# Altium footprint library Bandgap Reference.PcbLib: 4 footprints
Each footprint in its own frame and in the unit in brackets; x right, y up, seen from the top. Pads: shape width x height; smd on the part's side, far side on the other; paste and mask are expansions set on the pad; w line width, h text height; cw(c..) or ccw(c..) is an arc to the next point about the centre after c.
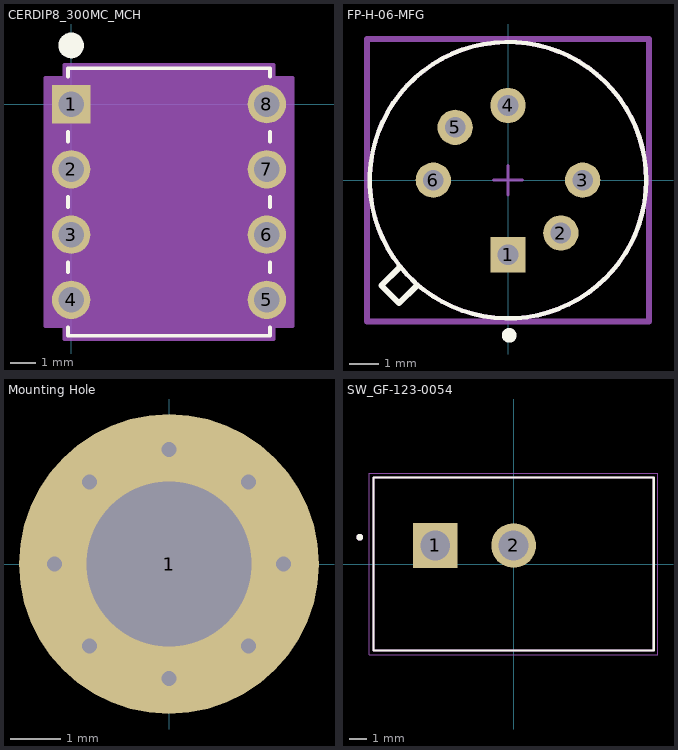
[diagram p0: the footprints below, top view; thin cyan lines are the x and y axes]

## CERDIP8_300MC_MCH [mil]
pads (8):
  rect 59x59 / inner round 60 / far side rect 59x59 hole 39 paste-99999 mask+0: 1(0,0)
  round 59 / inner round 60 / far side round 59 hole 39 paste-99999 mask+0: 2(0,-100) 3(0,-200) 4(0,-300) 5(300,-300) 6(300,-200) 7(300,-100) 8(300,0)
Top Overlay:
  circle w19.68: c0,90 r9.84
  lines w6: -5,-342.31 -5,-355 305,-355 305,-342.31 ; -5,-257.69 -5,-242.31 ; -5,-157.69 -5,-142.31 ; -5,-57.69 -5,-42.6 ; -5,42.6 -5,55 305,55 305,42.31 ; 305,-257.69 305,-242.31 ; 305,-157.69 305,-142.31 ; 305,-57.69 305,-42.31
Mechanical 13:
  lines w0: 138,50 ccw(c150,50) 162,50
  lines w1: -19.5,-319.5 -19.5,-280.5 0,-280.5 0,-319.5 -19.5,-319.5 ; -19.5,-219.5 -19.5,-180.5 0,-180.5 0,-219.5 -19.5,-219.5 ; -19.5,-119.5 -19.5,-80.5 0,-80.5 0,-119.5 -19.5,-119.5 ; -19.5,-19.5 -19.5,19.5 0,19.5 0,-19.5 -19.5,-19.5 ; 0,-350 300,-350 300,50 0,50 0,-350 ; 300,-319.5 300,-280.5 319.5,-280.5 319.5,-319.5 300,-319.5 ; 300,-219.5 300,-180.5 319.5,-180.5 319.5,-219.5 300,-219.5 ; 300,-119.5 300,-80.5 319.5,-80.5 319.5,-119.5 300,-119.5 ; 300,-19.5 300,19.5 319.5,19.5 319.5,-19.5 300,-19.5
  text "*" at -2.5,-25 h50
Mechanical 15:
  region: 310,-340 339.5,-340 339.5,40 310,40 310,60 -10,60 -10,40 -39.5,40 -39.5,-340 -10,-340 -10,-360 310,-360
  lines w6: -39.5,-340 -39.5,40 -10,40 -10,60 310,60 310,40 339.5,40 339.5,-340 310,-340 310,-360 -10,-360 -10,-340 -39.5,-340
3D body "CERDIP8_300MC_MCH.step": height 205.12, standoff -100, extent -5.04,-350 309.57,50

## FP-H-06-MFG [mm]
pads (6):
  rect 1.2x1.2 hole 0.7 paste-2539.97 mask+0: 1(0,-2.54)
  round 1.2 hole 0.7 paste-2539.97 mask+0: 2(1.796,-1.796) 3(2.54,0) 4(0,2.54) 5(-1.796,1.796) 6(-2.54,0)
Top Overlay:
  circle w0.15: c0,0 r4.7
  circle w0.25: c0.04,-5.275 r0.125
  lines w0.2: -4.305,-3.582 -3.705,-4.183 ; -4.3,-3.575 -3.7,-2.975 ; -3.705,-4.185 -3.105,-3.585
Top 3D Body:
  circle w0.15: c0,0 r4.7
Top Courtyard:
  lines w0.2: -4.8,-4.8 4.8,-4.8 4.8,4.8 -4.8,4.8 -4.8,-4.8
Top Assembly:
  lines w0.2: -4.8,-4.8 4.8,-4.8 4.8,4.8 -4.8,4.8 -4.8,-4.8
  text ".Designator" at 0,-0.001 h1
Top Component Center:
  lines w0.1: -0.5,0 0.5,0 ; 0,-0.5 0,0.5
3D body "Trans_Analog_Devices_MAT01GHZ_eec.STEP": height 0.25, standoff 0, extent -4.8,-4.8 4.8,4.8

## Mounting Hole [mm]
pads (1):
  round 6 hole 3.3: 1(0,0)
via 0,2.286 diameter 0.6 hole 0.3
via 0,-2.286 diameter 0.6 hole 0.3
via -2.286,0 diameter 0.6 hole 0.3
via 2.286,0 diameter 0.6 hole 0.3
via -1.588,1.636 diameter 0.6 hole 0.3
via 1.588,-1.636 diameter 0.6 hole 0.3
via -1.588,-1.636 diameter 0.6 hole 0.3
via 1.588,1.636 diameter 0.6 hole 0.3

## SW_GF-123-0054 [mm]
pads (2):
  rect 2.625x2.625 hole 1.75: 1(-4.6,1.09)
  round 2.625 hole 1.75: 2(0,1.09)
Top Overlay:
  circle w0.2: c-9.04,1.57 r0.1
  lines w0.127: 8.23,1.75 8.23,3.3 ; -8.23,-5.08 8.23,-5.08 8.23,5.08 -8.23,5.08 -8.23,-5.08
Mechanical 13:
  circle w0.2: c-9.04,1.57 r0.1
  lines w0.127: -8.23,-5.08 8.23,-5.08 8.23,5.08 -8.23,5.08 -8.23,-5.08
Mechanical 15:
  lines w0.05: -8.48,-5.33 8.48,-5.33 8.48,5.33 -8.48,5.33 -8.48,-5.33
3D body "GF-123-0054.STEP": height 14.96, standoff -4.06, extent -8.23,-5.08 8.23,5.08